# Altium footprint library JL.PcbLib: 3 footprints
Each footprint in its own frame and in the unit in brackets; x right, y up, seen from the top. Pads: shape width x height; smd on the part's side, far side on the other; paste and mask are expansions set on the pad; w line width, h text height; cw(c..) or ccw(c..) is an arc to the next point about the centre after c.
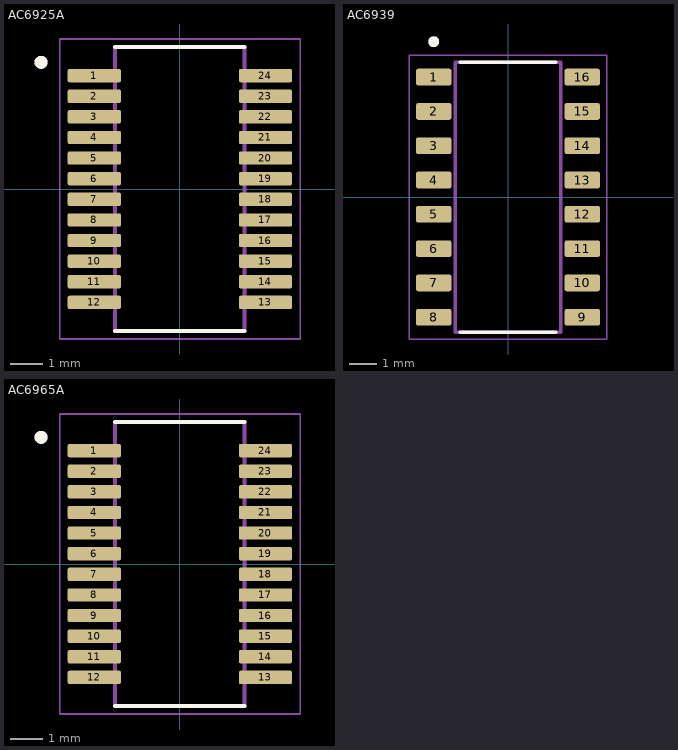
[diagram p0: the footprints below, top view; thin cyan lines are the x and y axes]

## AC6925A [mm] "Bluetooth Audio IC"
pads (24):
  rrect25% 1.64x0.41 smd: 1(-2.635,3.492) 2(-2.635,2.857) 3(-2.635,2.222) 4(-2.635,1.587) 5(-2.635,0.953) 6(-2.635,0.318) 7(-2.635,-0.318) 8(-2.635,-0.953) 9(-2.635,-1.587) 10(-2.635,-2.222) 11(-2.635,-2.857) 12(-2.635,-3.492) 13(2.635,-3.492) 14(2.635,-2.857) 15(2.635,-2.222) 16(2.635,-1.587) 17(2.635,-0.953) 18(2.635,-0.318) 19(2.635,0.318) 20(2.635,0.953) 21(2.635,1.587) 22(2.635,2.222) 23(2.635,2.857) 24(2.635,3.492)
Top Overlay:
  circle w0.2: c-4.275,3.902 r0.1
  lines w0.127: -1.995,-4.37 1.995,-4.37 ; -1.995,4.37 1.995,4.37
Mechanical 13:
  circle w0.2: c-4.275,3.902 r0.1
  lines w0.127: -1.995,-4.37 -1.995,4.37 1.995,4.37 1.995,-4.37 -1.995,-4.37
Mechanical 15:
  lines w0.05: -3.705,-4.62 -3.705,4.62 3.705,4.62 3.705,-4.62 -3.705,-4.62
3D body "step_temp.STEP": height 1.73, standoff 0, extent -3,-4.33 3,4.33

## AC6939 [mm] "Bluetooth Audio IC"
height 1.8
pads (16):
  rrect25% 1.31x0.62 smd: 1(-2.75,4.445) 2(-2.75,3.175) 3(-2.75,1.905) 4(-2.75,0.635) 5(-2.75,-0.635) 6(-2.75,-1.905) 7(-2.75,-3.175) 8(-2.75,-4.445) 9(2.75,-4.445) 10(2.75,-3.175) 11(2.75,-1.905) 12(2.75,-0.635) 13(2.75,0.635) 14(2.75,1.905) 15(2.75,3.175) 16(2.75,4.445)
Top Overlay:
  circle w0.2: c-2.75,5.755 r0.1
  lines w0.127: -1.775,-5 1.775,-5 ; -1.775,5 1.775,5
Mechanical 13:
  circle w0.2: c-2.75,5.755 r0.1
  lines w0.127: -1.95,-5 1.95,-5 1.95,5 -1.95,5 -1.95,-5
Mechanical 15:
  lines w0.05: -3.655,-5.25 3.655,-5.25 3.655,5.25 -3.655,5.25 -3.655,-5.25
3D body "step_temp.STEP": height 1.8, standoff 0, extent -3,-5 3,5

## AC6965A [mm] "Bluetooth Audio IC"
pads (24):
  rrect25% 1.64x0.41 smd: 1(-2.635,3.492) 2(-2.635,2.857) 3(-2.635,2.222) 4(-2.635,1.587) 5(-2.635,0.953) 6(-2.635,0.318) 7(-2.635,-0.318) 8(-2.635,-0.953) 9(-2.635,-1.587) 10(-2.635,-2.222) 11(-2.635,-2.857) 12(-2.635,-3.492) 13(2.635,-3.492) 14(2.635,-2.857) 15(2.635,-2.222) 16(2.635,-1.587) 17(2.635,-0.953) 18(2.635,-0.318) 19(2.635,0.318) 20(2.635,0.953) 21(2.635,1.587) 22(2.635,2.222) 23(2.635,2.857) 24(2.635,3.492)
Top Overlay:
  circle w0.2: c-4.275,3.902 r0.1
  lines w0.127: -1.995,-4.37 1.995,-4.37 ; -1.995,4.37 1.995,4.37
Mechanical 13:
  circle w0.2: c-4.275,3.902 r0.1
  lines w0.127: -1.995,-4.37 -1.995,4.37 1.995,4.37 1.995,-4.37 -1.995,-4.37
Mechanical 15:
  lines w0.05: -3.705,-4.62 -3.705,4.62 3.705,4.62 3.705,-4.62 -3.705,-4.62
3D body "step_temp.STEP": height 1.73, standoff 0, extent -3,-4.33 3,4.33